# Altium schematic symbol library UMSB30M.SchLib: 1 symbol
Pins are listed as number, name and electrical type; pins without a type are passive.

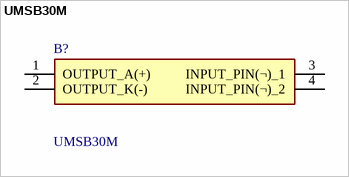
[diagram p0: symbol UMSB30M]

## UMSB30M
designator B?
1kV 3A 1.6V @ 3A 5uA @ 1kV 80A -55~+150 UMSB Bridge Rectifiers RoHS; Manufacturer_Name: N2Power; Geometry.Height: 1.5mm; Manufacturer_Part_Number: UMSB30M; Mouser Part Number: *; Mouser Price/Stock: *; Arrow Part Number: *; Arrow Price/Stock: *; Datasheet Link: https://datasheet.lcsc.com/szlcsc/1904041131_Shandong-Jingdao-Microelectronics-UMSB30M_C382769.pdf
footprint SOTFL510P865X150-4N
pins: 1 OUTPUT_A(+), 2 OUTPUT_K(-), 3 INPUT_PIN(¬)_1, 4 INPUT_PIN(¬)_2